# Altium footprint library XDCR_ENS220S-BLGT_LGA10_T&R_3K5.PcbLib: 1 footprints
Each footprint in its own frame and in the unit in brackets; x right, y up, seen from the top. Pads: shape width x height; smd on the part's side, far side on the other; paste and mask are expansions set on the pad; w line width, h text height; cw(c..) or ccw(c..) is an arc to the next point about the centre after c.
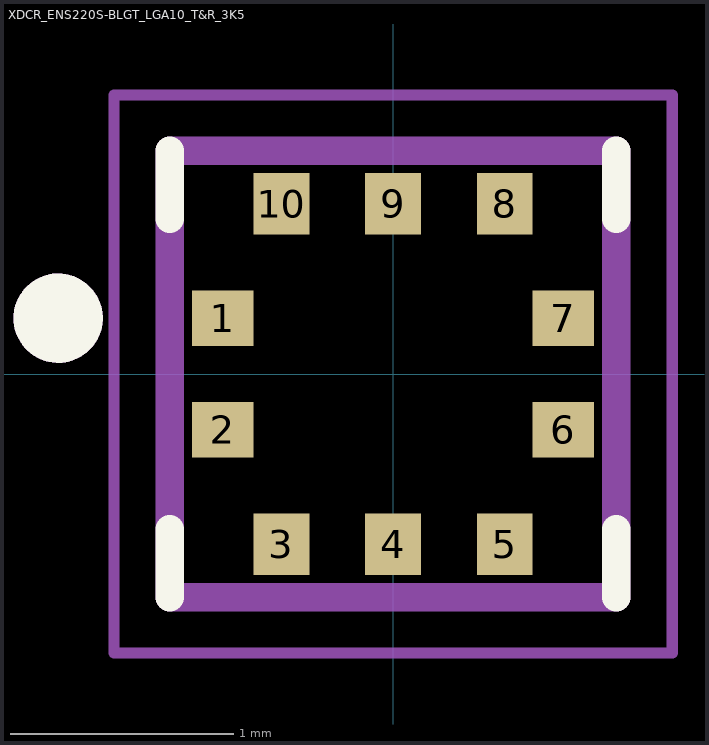
[diagram p0: the footprint, top view; thin cyan lines are the x and y axes]

## XDCR_ENS220S-BLGT_LGA10_T&R_3K5 [mm]
height 0.8
pads (10):
  rect 0.275x0.25 smd: 1(-0.763,0.25) 2(-0.763,-0.25) 6(0.763,-0.25) 7(0.763,0.25)
  rect 0.25x0.275 smd: 3(-0.5,-0.763) 4(0,-0.763) 5(0.5,-0.763) 8(0.5,0.763) 9(0,0.763) 10(-0.5,0.763)
Top Overlay:
  circle w0.2: c-1.5,0.25 r0.1
  lines w0.127: -1,-1 -1,-0.695 ; -1,0.695 -1,1 ; 1,-1 1,-0.695 ; 1,0.695 1,1
Assembly Top:
  circle w0.2: c-1.5,0.25 r0.1
  lines w0.127: -1,-1 -1,1 1,1 1,-1 -1,-1
Courtyard Top:
  lines w0.05: -1.25,-1.25 1.25,-1.25 1.25,1.25 -1.25,1.25 -1.25,-1.25
3D body "step_temp.STEP": height 0.75, standoff 0, extent -1,-1 1,1